# EAGLE library part LM75A (library tmxk)
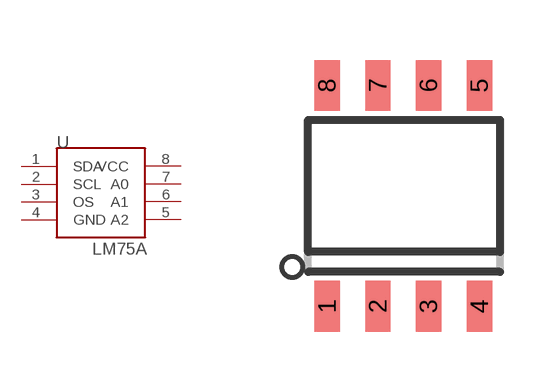
[diagram p14: symbol with the pads of SOP8; footprint SOP8]

Designator prefix U

## LM75A  [SOP8]
1  SDA
2  SCL
3  OS
4  GND
5  A2
6  A1
7  A0
8  VCC

## Footprint SOP8 (pad centres in mm)
Small Outline Package 8 NS Package M08A
smd 0.635 x 1.27: 1 -1.925,-2.76; 2 -0.655,-2.76; 3 0.615,-2.76; 4 1.885,-2.76; 5 1.885,2.76; 6 0.615,2.76; 7 -0.655,2.76; 8 -1.925,2.76